# EAGLE library part MCU_ATTINY45 (library akita)
Atmel ATtiny45
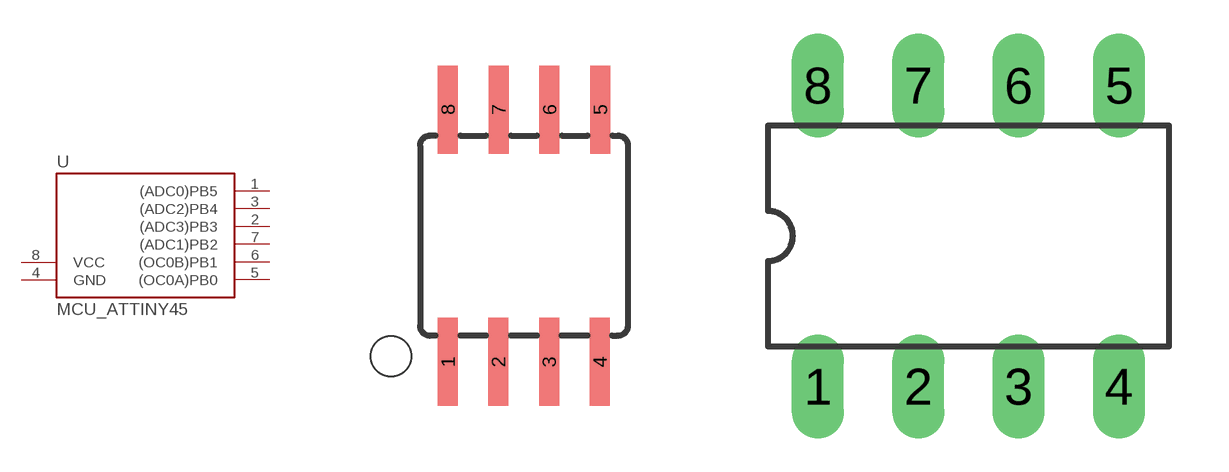
[diagram p29: symbol with the pads of SOIC8; footprints SOIC8, DIL08]

Designator prefix U

## MCU_ATTINY45SO  [SOIC8]
1  (ADC0)PB5
2  (ADC3)PB3
3  (ADC2)PB4
4  GND  pwr
5  (OC0A)PB0
6  (OC0B)PB1
7  (ADC1)PB2
8  VCC  pwr

## MCU_ATTINY45DP  [DIL08]
Pads as for SOIC8

## MCU_ATTINY45TS  [TSSOP8]
Pads as for SOIC8

## MCU_ATTINY45ML  [QFN20]
P$1  (ADC0)PB5
P$2  (ADC3)PB3
P$5  (ADC2)PB4
P$8  GND  pwr
P$11  (OC0A)PB0
P$12  (OC0B)PB1
P$14  (ADC1)PB2
P$15  VCC  pwr

## Footprint SOIC8 (pad centres in mm)
Wide Plastic Gull Wing Small Outline Package
smd 0.5 x 2.2: 1 -1.905,-3.154; 2 -0.645,-3.154; 3 0.625,-3.154; 4 1.895,-3.154; 5 1.905,3.154; 6 0.635,3.154; 7 -0.635,3.154; 8 -1.905,3.154

## Footprint DIL08 (pad centres in mm)
Dual In Line
drill 0.813 long: 1 -3.81,-3.81; 2 -1.27,-3.81; 3 1.27,-3.81; 4 3.81,-3.81; 5 3.81,3.81; 6 1.27,3.81; 7 -1.27,3.81; 8 -3.81,3.81

## Footprint TSSOP8 (pad centres in mm)
http://www.ti.com/lit/ds/symlink/lm358.pdf
smd 0.27 x 1.2: 1 -0.975,-2.86; 2 -0.325,-2.86; 3 0.325,-2.86; 4 0.975,-2.86; 5 0.975,2.86; 6 0.325,2.86; 7 -0.325,2.86; 8 -0.975,2.86

## Footprint QFN20 (pad centres in mm)
QFN20 with E-Pad
smd 1 x 0.25: P$1 -2,1; P$2 -2,0.5; P$3 -2,0; P$4 -2,-0.5; P$5 -2,-1; P$11 2,-1; P$12 2,-0.5; P$13 2,0; P$14 2,0.5; P$15 2,1
smd 0.25 x 1: P$6 -1,-2; P$7 -0.5,-2; P$8 0,-2; P$9 0.5,-2; P$10 1,-2; P$16 1,2; P$17 0.5,2; P$18 0,2; P$19 -0.5,2; P$20 -1,2
smd 2.5 x 2.5: P$21 0,0